# EAGLE library part HEADER_1X30 (library headers)
PIN HEADER
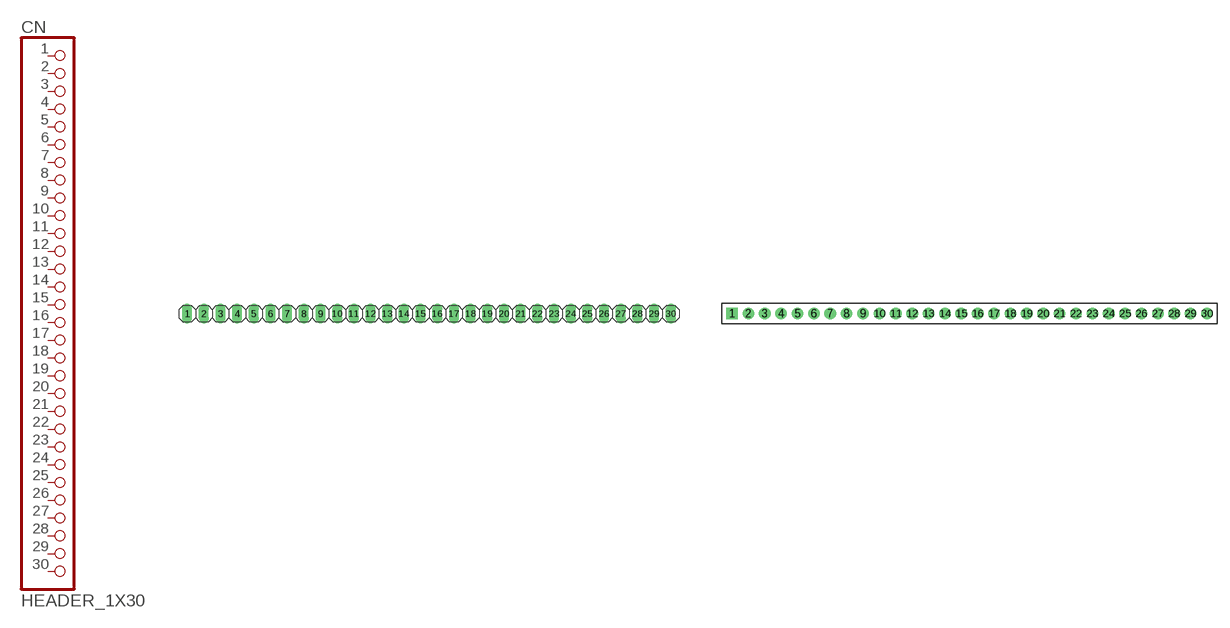
[diagram p20: symbol with the pads of 1X30; footprints 1X30, 1X30M]

Designator prefix CN

## HEADER_1X30_2.54  [1X30]
1  1  pas
2  2  pas
3  3  pas
4  4  pas
5  5  pas
6  6  pas
7  7  pas
8  8  pas
9  9  pas
10  10  pas
11  11  pas
12  12  pas
13  13  pas
14  14  pas
15  15  pas
16  16  pas
17  17  pas
18  18  pas
19  19  pas
20  20  pas
21  21  pas
22  22  pas
23  23  pas
24  24  pas
25  25  pas
26  26  pas
27  27  pas
28  28  pas
29  29  pas
30  30  pas

## HEADER_1X30_2.00  [1X30M]
Pads as for 1X30

## HEADER_1X30_2.54-90°  [1X30/90]
Pads as for 1X30

## HEADER_1X30_2.54-SMD  [1X30SMD]
Pads as for 1X30

## HEADER_1X30_2.54-SMD-90°  [1X30SMD/90]
Pads as for 1X30

## Footprint 1X30 (pad centres in mm)
PIN HEADER - 2.54
drill 1.016 long: 1 -36.83,0; 2 -34.29,0; 3 -31.75,0; 4 -29.21,0; 5 -26.67,0; 6 -24.13,0; 7 -21.59,0; 8 -19.05,0; 9 -16.51,0; 10 -13.97,0; 11 -11.43,0; 12 -8.89,0; 13 -6.35,0; 14 -3.81,0; 15 -1.27,0; 16 1.27,0; 17 3.81,0; 18 6.35,0; 19 8.89,0; 20 11.43,0; 21 13.97,0; 22 16.51,0; 23 19.05,0; 24 21.59,0; 25 24.13,0; 26 26.67,0; 27 29.21,0; 28 31.75,0; 29 34.29,0; 30 36.83,0

## Footprint 1X30M (pad centres in mm)
PIN HEADER - 2
drill 0.914 square: 1 -29,0
drill 0.914: 2 -27,0; 3 -25,0; 4 -23,0; 5 -21,0; 6 -19,0; 7 -17,0; 8 -15,0; 9 -13,0; 10 -11,0; 11 -9,0; 12 -7,0; 13 -5,0; 14 -3,0; 15 -1,0; 16 1,0; 17 3,0; 18 5,0; 19 7,0; 20 9,0; 21 11,0; 22 13,0; 23 15,0; 24 17,0; 25 19,0; 26 21,0; 27 23,0; 28 25,0; 29 27,0; 30 29,0

## Footprint 1X30/90 (pad centres in mm)
PIN HEADER - 2.54 90°
drill 1.016 long: 1 -24.13,-3.81; 2 -21.59,-3.81; 3 -19.05,-3.81; 4 -16.51,-3.81; 5 -13.97,-3.81; 6 -11.43,-3.81; 7 -8.89,-3.81; 8 -6.35,-3.81; 9 -3.81,-3.81; 10 -1.27,-3.81; 11 1.27,-3.81; 12 3.81,-3.81; 13 6.35,-3.81; 14 8.89,-3.81; 15 11.43,-3.81; 16 13.97,-3.81; 17 16.51,-3.81; 18 19.05,-3.81; 19 21.59,-3.81; 20 24.13,-3.81; 21 26.67,-3.81; 22 29.21,-3.81; 23 31.75,-3.81; 24 34.29,-3.81; 25 36.83,-3.81; 26 39.37,-3.81; 27 41.91,-3.81; 28 44.45,-3.81; 29 46.99,-3.81; 30 49.53,-3.81

## Footprint 1X30SMD (pad centres in mm)
PIN HEADER - 2.54 SMD
smd 1.016 x 3.302: 1 -1.27,1.27; 2 1.27,-1.27; 3 3.81,1.27; 4 6.35,-1.27; 5 8.89,1.27; 6 11.43,-1.27; 7 13.97,1.27; 8 16.51,-1.27; 9 19.05,1.27; 10 21.59,-1.27; 11 24.13,1.27; 12 26.67,-1.27; 13 29.21,1.27; 14 31.75,-1.27; 15 34.29,1.27; 16 36.83,-1.27; 17 39.37,1.27; 18 41.91,-1.27; 19 44.45,1.27; 20 46.99,-1.27; 21 49.53,1.27; 22 52.07,-1.27; 23 54.61,1.27; 24 57.15,-1.27; 25 59.69,1.27; 26 62.23,-1.27; 27 64.77,1.27; 28 67.31,-1.27; 29 69.85,1.27; 30 72.39,-1.27

## Footprint 1X30SMD/90 (pad centres in mm)
PIN HEADER - 2.54 90°
smd 1.016 x 1.778: 1 -1.27,-5.08; 2 1.27,-5.08; 3 3.81,-5.08; 4 6.35,-5.08; 5 8.89,-5.08; 6 11.43,-5.08; 7 13.97,-5.08; 8 16.51,-5.08; 9 19.05,-5.08; 10 21.59,-5.08; 11 24.13,-5.08; 12 26.67,-5.08; 13 29.21,-5.08; 14 31.75,-5.08; 15 34.29,-5.08; 16 36.83,-5.08; 17 39.37,-5.08; 18 41.91,-5.08; 19 44.45,-5.08; 20 46.99,-5.08; 21 49.53,-5.08; 22 52.07,-5.08; 23 54.61,-5.08; 24 57.15,-5.08; 25 59.69,-5.08; 26 62.23,-5.08; 27 64.77,-5.08; 28 67.31,-5.08; 29 69.85,-5.08; 30 72.39,-5.08